# Altium footprint library RFID_CC1101_433MHz.PcbLib: 207 footprints (part 2 of 13)
Each footprint in its own frame and in the unit in brackets; x right, y up, seen from the top. Pads: shape width x height; smd on the part's side, far side on the other; paste and mask are expansions set on the pad; w line width, h text height; cw(c..) or ccw(c..) is an arc to the next point about the centre after c.
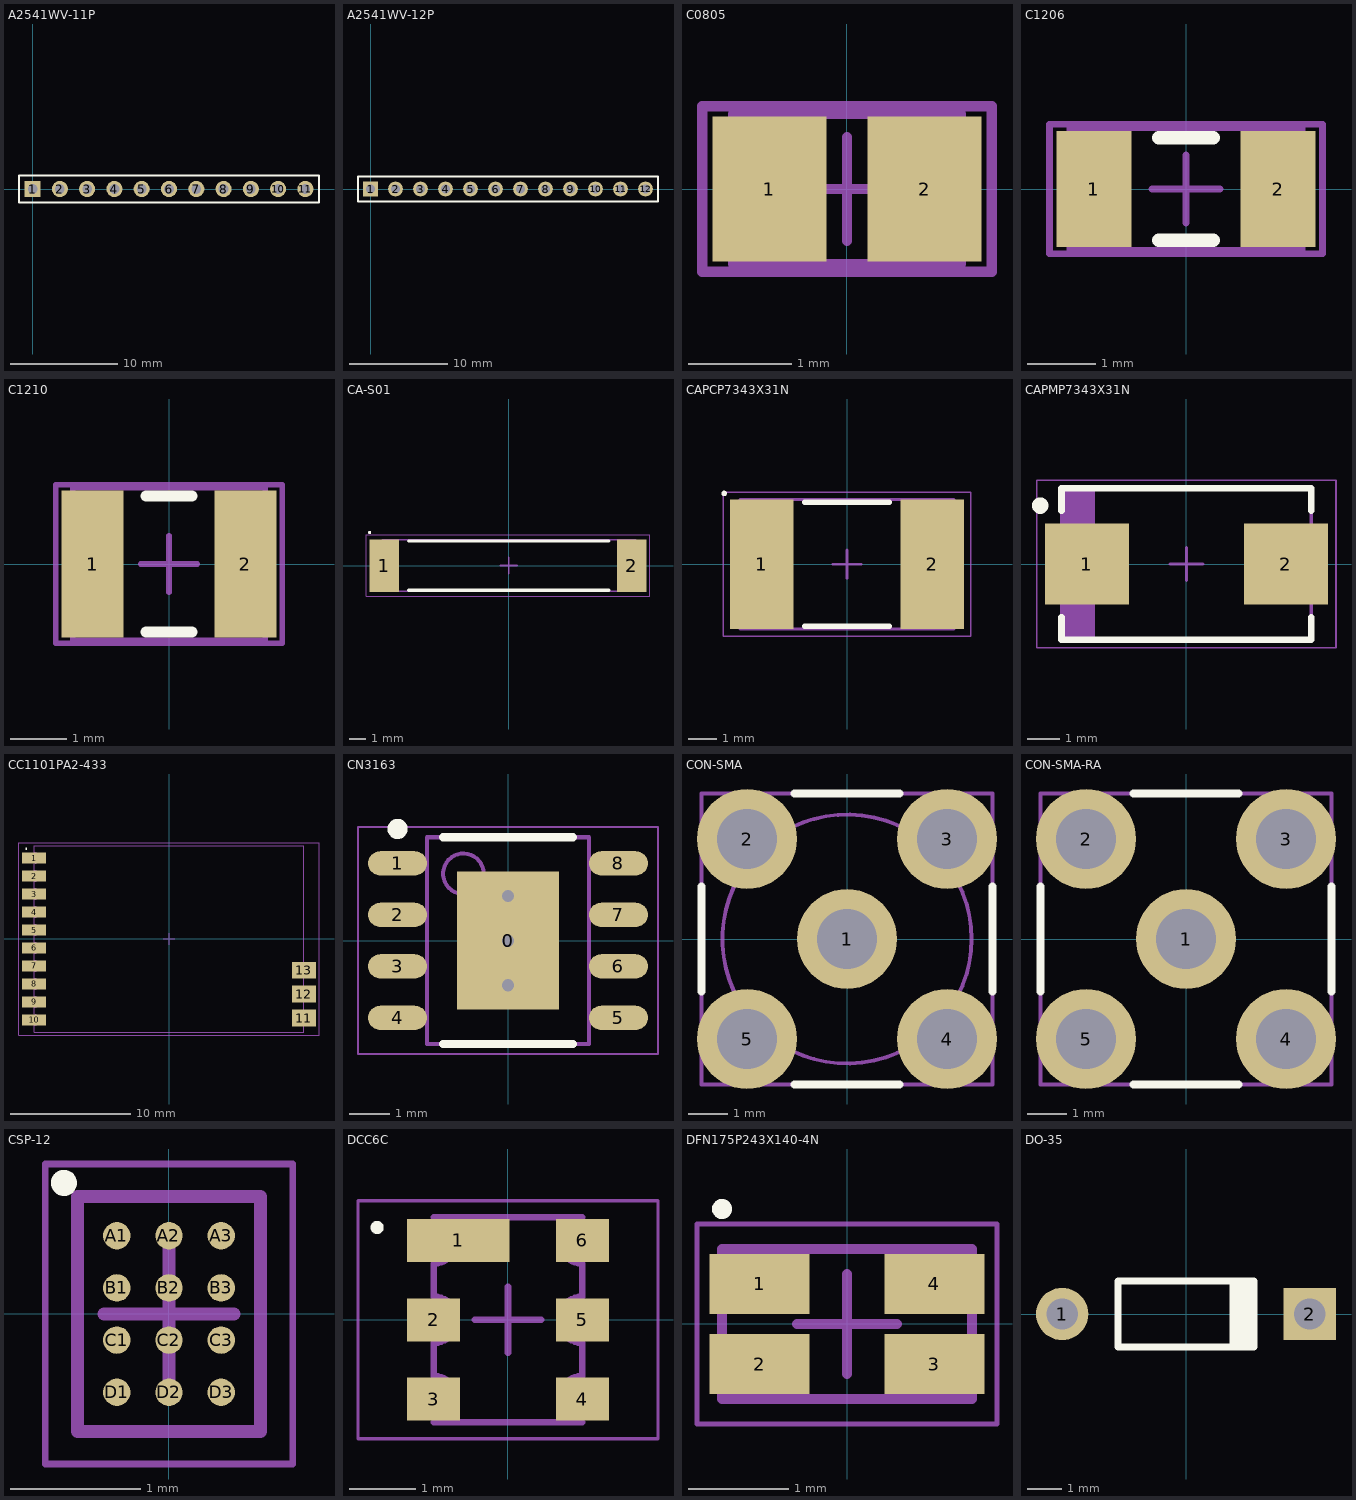
[diagram p1: the footprints below, top view; thin cyan lines are the x and y axes]

## A2541WV-11P [mm] "Connector; Header; 11 Position"
pads (11):
  rect 1.5x1.5 hole 0.9: 1(0,0)
  round 1.5 hole 0.9: 2(2.54,0) 3(5.08,0) 4(7.62,0) 5(10.16,0) 6(12.7,0) 7(15.24,0) 8(17.78,0) 9(20.32,0) 10(22.86,0) 11(25.4,0)
Top Overlay:
  lines w0.2: -1.27,-1.27 26.67,-1.27 26.67,1.27 0.635,1.27 -1.27,1.27 -1.27,-1.27

## A2541WV-12P [mm] "Connector; Header; 12 Position"
pads (12):
  rect 1.5x1.5 hole 0.9: 1(0,0)
  round 1.5 hole 0.9: 2(2.54,0) 3(5.08,0) 4(7.62,0) 5(10.16,0) 6(12.7,0) 7(15.24,0) 8(17.78,0) 9(20.32,0) 10(22.86,0) 11(25.4,0) 12(27.94,0)
Top Overlay:
  lines w0.2: -1.27,-1.27 29.21,-1.27 29.21,1.27 0.635,1.27 -1.27,1.27 -1.27,-1.27

## C0805 [mm] "Chip Capacitor, Body 2.0x1.3mm, IPC High Density"
height 1.4
pads (2):
  rect 1.1x1.4 smd: 1(-0.75,0) 2(0.75,0)
Mechanical 13:
  lines w0.1: -1.1,-0.725 -1.1,0.725 1.1,0.725 1.1,-0.725 -1.1,-0.725
Mechanical 15:
  lines w0.1: -0.5,0 0.5,0 ; 0,-0.5 0,0.5 ; -1.4,-0.8 -1.4,0.8 1.4,0.8 1.4,-0.8 -1.4,-0.8
3D body: height 1.4, standoff 0, extent -1.1,-0.725 1.1,0.725

## C1206 [mm] "Chip Capacitor, Body 3.2x1.6mm, IPC High Density"
height 1.3
pads (2):
  rect 1.1x1.7 smd: 1(-1.35,0) 2(1.35,0)
Top Overlay:
  lines w0.2: -0.4,-0.75 0.4,-0.75 ; -0.4,0.75 0.4,0.75
Mechanical 13:
  lines w0.1: -1.7,-0.9 -1.7,0.9 1.7,0.9 1.7,-0.9 -1.7,-0.9
Mechanical 15:
  lines w0.1: -0.5,0 0.5,0 ; 0,-0.5 0,0.5 ; -2,-0.95 -2,0.95 2,0.95 2,-0.95 -2,-0.95
3D body: height 1.3, standoff 0, extent -1.7,-0.9 1.7,0.9

## C1210 [mm] "Chip Capacitor, Body 3.2x2.5mm, IPC High Density"
height 1.3
pads (2):
  rect 1.1x2.6 smd: 1(-1.35,0) 2(1.35,0)
Top Overlay:
  lines w0.2: -0.4,-1.2 0.4,-1.2 ; -0.4,1.2 0.4,1.2
Mechanical 13:
  lines w0.1: -1.7,-1.35 1.7,-1.35 1.7,1.35 -1.7,1.35 -1.7,-1.35
Mechanical 15:
  lines w0.1: -0.5,0 0.5,0 ; 0,-0.5 0,0.5 ; -2,-1.4 2,-1.4 2,1.4 -2,1.4 -2,-1.4
3D body: height 1.3, standoff 0, extent -1.7,-1.35 1.7,1.35

## CA-S01 [mm] "CorssAir Antenna, 2-Leads, Body 15.00x3.00mm, IPC Medium Density"
height 1
pads (2):
  rect 1.8x3.15 smd: 1(-7.475,0) 2(7.375,0)
Top Overlay:
  circle w0.1: c-8.357,1.981 r0.05
  lines w0.2: -6,-1.475 6,-1.475 ; -6,1.475 6,1.475
Assembly Top:
  lines w0.1: -7.6,-1.55 7.6,-1.55 7.6,1.55 -7.6,1.55 -7.6,-1.55
Courtyard Top:
  lines w0.05: -8.56,-1.85 8.458,-1.85 8.458,1.85 -8.56,1.85 -8.56,-1.85
  lines w0.1: -0.5,0 0.5,0 ; 0,-0.5 0,0.5
3D body: height 0.25, standoff 0, extent -7.6,-1.55 7.6,1.55

## CAPCP7343X31N [mm] "Chip Capacitor, 2-Leads, Body 7.30x4.30mm, IPC Medium Density"
height 3.1
pads (2):
  rect 2.25x4.6 smd: 1(-3.025,0) 2(3.025,0)
Top Overlay:
  circle w0.1: c-4.362,2.512 r0.05
  lines w0.2: -1.5,-2.2 1.5,-2.2 ; -1.5,2.2 1.5,2.2
Mechanical 13:
  lines w0.1: -3.8,-2.3 3.8,-2.3 3.8,2.3 -3.8,2.3 -3.8,-2.3
Mechanical 15:
  lines w0.05: -4.4,-2.55 4.4,-2.55 4.4,2.55 -4.4,2.55 -4.4,-2.55
  lines w0.1: -0.5,0 0.5,0 ; 0,-0.5 0,0.5
3D body "CAPCP7343X31N.step": height 3.1, standoff 0, extent -3.8,-2.3 3.8,2.3

## CAPMP7343X31N [mm] "Molded Capacitor, 2-Leads, Body 7.30x4.30mm, IPC Medium Density"
height 3.1
pads (2):
  rect 2.55x2.45 smd: 1(-3.025,0) 2(3.025,0)
Top Overlay:
  circle w0.25: c-4.45,1.775 r0.125
  lines w0.2: -3.8,-1.625 -3.8,-2.3 3.8,-2.3 3.8,-1.625 ; -3.8,1.625 -3.8,2.3 3.8,2.3 3.8,1.625
Mechanical 13:
  rectangle: -3.8,-2.3 -2.778,2.3
  lines w0.1: -3.8,-2.3 3.8,-2.3 3.8,2.3 -3.8,2.3 -3.8,-2.3
Mechanical 15:
  lines w0.05: -4.55,-2.55 4.55,-2.55 4.55,2.55 -4.55,2.55 -4.55,-2.55
  lines w0.1: -0.5,0 0.5,0 ; 0,-0.5 0,0.5
3D body "CAPMP7343X31N.step": height 3.1, standoff 0, extent -4.02,-2.3 4.02,2.3

## CC1101PA2-433 [mm] "Concave, 13-Leads, Pitch 1.50mm,  Body 15.60x23.50mm"
height 2.7
pads (13):
  rect 2x0.9 smd: 1(-11.25,6.75) 2(-11.25,5.25) 3(-11.25,3.75) 4(-11.25,2.25) 5(-11.25,0.75) 6(-11.25,-0.75) 7(-11.25,-2.25) 8(-11.25,-3.75) 9(-11.25,-5.25) 10(-11.25,-6.75)
  rect 2x1.4 smd: 11(11.25,-6.6) 12(11.25,-4.6) 13(11.25,-2.6)
Top Overlay:
  circle w0.1: c-11.912,7.538 r0.05
Assembly Top:
  lines w0.1: -11.25,-7.8 11.25,-7.8 11.25,-7.2 cw(c11.25,-6.6) 11.25,-6 11.25,-5.2 cw(c11.25,-4.6) 11.25,-4 11.25,-3.2 cw(c11.25,-2.6) 11.25,-2 11.25,7.8 -11.25,7.8 -11.25,7.2 cw(c-11.25,6.75) -11.25,6.3 -11.25,5.7 cw(c-11.25,5.25) -11.25,4.8 -11.25,4.2 cw(c-11.25,3.75) -11.25,3.3 -11.25,2.7 cw(c-11.25,2.25) -11.25,1.8 -11.25,1.2 cw(c-11.25,0.75) -11.25,0.3 -11.25,-0.3 cw(c-11.25,-0.75) -11.25,-1.2 -11.25,-1.8 cw(c-11.25,-2.25) -11.25,-2.7 -11.25,-3.3 cw(c-11.25,-3.75) -11.25,-4.2 -11.25,-4.8 cw(c-11.25,-5.25) -11.25,-5.7 -11.25,-6.3 cw(c-11.25,-6.75) -11.25,-7.2 -11.25,-7.8
Courtyard Top:
  lines w0.05: -12.52,-8.05 12.52,-8.05 12.52,8.05 -12.52,8.05 -12.52,-8.05
  lines w0.1: -0.5,0 0.5,0 ; 0,-0.5 0,0.5
3D body "CC1101PA2-433.step": height 2.7, standoff 0, extent -11.8,-7.8 11.8,7.8

## CN3163 [mm] "SOP, 8-Leads, Body 4.90x3.90mm, Pitch 1.27mm, Thermal Pad 3.41x2.52mm, IPC Medium Density"
height 1.75
pads (9):
  rect 2.52x3.41 smd: 0(0,0)
  oval 1.45x0.6 smd: 1(-2.725,1.905) 2(-2.725,0.635) 3(-2.725,-0.635) 4(-2.725,-1.905) 5(2.725,-1.905) 6(2.725,-0.635) 7(2.725,0.635) 8(2.725,1.905)
via 0,0 diameter 0.508 hole 0.305
via 0,1.1 diameter 0.508 hole 0.305
via 0,-1.1 diameter 0.508 hole 0.305
Top Overlay:
  circle w0.25: c-2.725,2.755 r0.125
  lines w0.2: -1.6,-2.55 1.6,-2.55 ; -1.6,2.55 1.6,2.55
Mechanical 13:
  circle w0.1: c-1.1,1.65 r0.5
  lines w0.1: -2,-2.55 2,-2.55 2,2.55 -2,2.55 -2,-2.55
Mechanical 15:
  lines w0.05: -3.7,-2.8 3.7,-2.8 3.7,2.8 -3.7,2.8 -3.7,-2.8
  lines w0.1: -0.5,0 0.5,0 ; 0,-0.5 0,0.5
3D body "CN3163.step": height 1.75, standoff 0, extent -3,-2.55 3,2.55

## CON-SMA [mil] "Connector, SMA Female, 5-Lead, Thru-Hole, Straight, Body 7x7mm"
height 401.57
pads (5):
  round 100 hole 60: 1(0,0) 2(-100,100) 3(100,100) 4(100,-100) 5(-100,-100)
Top Overlay:
  lines w7.87: -145.67,-52.68 -145.67,52.68 ; -52.68,-145.67 52.68,-145.67 ; -52.68,145.67 52.68,145.67 ; 145.67,-52.68 145.67,52.68
Mechanical 13:
  circle w3.94: c-0.01,-0.01 r124.55
  lines w3.94: -145.67,-145.67 145.67,-145.67 145.67,145.67 -145.67,145.67 -145.67,-145.67
Mechanical 15:
  lines w3.94: -19.69,0 19.68,0 ; 0,-19.68 0,19.69

## CON-SMA-RA [mil] "Connector, SMA Female, 5-Lead, Thru-Hole, Right-Angle, Body 7x7mm"
height 409.45
pads (5):
  round 100 hole 60: 1(0,0) 2(-100,100) 3(100,100) 4(100,-100) 5(-100,-100)
Top Overlay:
  lines w7.87: -145.67,-52.68 -145.67,52.68 ; -52.68,-145.67 52.68,-145.67 ; -52.68,145.67 52.68,145.67 ; 145.67,-52.68 145.67,52.68
Mechanical 13:
  lines w3.94: -145.67,-145.67 145.67,-145.67 145.67,145.67 -145.67,145.67 -145.67,-145.67
Mechanical 15:
  lines w3.94: -19.69,0 19.68,0 ; 0,-19.68 0,19.69

## CSP-12 [mm] "CSP-12, 12-Leads, Body 1.40x1.80mmx0.63mm, Pitch 0.40mm"
height 0.63
pads (12):
  round 0.21 smd: A1(-0.4,0.6) A2(0,0.6) A3(0.4,0.6) B1(-0.4,0.2) B2(0,0.2) B3(0.4,0.2) C1(-0.4,-0.2) C2(0,-0.2) C3(0.4,-0.2) D1(-0.4,-0.6) D2(0,-0.6) D3(0.4,-0.6)
Top Overlay:
  circle w0.1: c-0.805,1.005 r0.05
Assembly Top:
  lines w0.1: -0.7,-0.9 0.7,-0.9 0.7,0.9 -0.7,0.9 -0.7,-0.9
Courtyard Top:
  lines w0.05: -0.95,-1.15 0.95,-1.15 0.95,1.15 -0.95,1.15 -0.95,-1.15
  lines w0.1: -0.5,0 0.5,0 ; 0,-0.5 0,0.5
3D body "CSP-12.step": height 0.63, standoff 0, extent -0.7,-0.9 0.7,0.9

## DCC6C [mm] "DCC6C,  6-Leads, Pitch 1.20mm,  Body 3.00x3.00mm,  IPC Medium Density, For B39871B3725U410"
height 1.23
pads (6):
  rect 1.55x0.65 smd: 1(-0.75,1.2)
  rect 0.8x0.65 smd: 2(-1.125,0) 3(-1.125,-1.2) 4(1.125,-1.2) 5(1.125,0) 6(1.125,1.2)
Top Overlay:
  circle w0.1: c-1.981,1.397 r0.05
Assembly Top:
  lines w0.1: -1.125,-1.55 ccw(c-1.125,-1.2) -1.125,-0.85 -1.125,-0.35 ccw(c-1.125,0) -1.125,0.35 -1.125,0.85 ccw(c-1.125,1.2) -1.125,1.55 1.125,1.55 ccw(c1.125,1.2) 1.125,0.85 1.125,0.35 ccw(c1.125,0) 1.125,-0.35 1.125,-0.85 ccw(c1.125,-1.2) 1.125,-1.55 -1.125,-1.55
Courtyard Top:
  lines w0.05: -2.27,-1.8 -2.27,1.8 2.27,1.8 2.27,-1.8 -2.27,-1.8
  lines w0.1: -0.5,0 0.5,0 ; 0,-0.5 0,0.5
3D body: height 1.23, standoff 0, extent -1.55,-1.55 1.55,1.55

## DFN175P243X140-4N [mm] "DFN, 4-Leads, Body 1.43x2.43mm, Pitch 1.75mm, IPC Medium Density"
height 1.4
pads (4):
  rect 1x0.6 smd: 1(-0.875,0.4) 2(-0.875,-0.4) 3(0.875,-0.4) 4(0.875,0.4)
Top Overlay:
  circle w0.1: c-1.25,1.15 r0.05
Mechanical 13:
  lines w0.1: -1.25,-0.75 -1.25,0.75 1.25,0.75 1.25,-0.75 -1.25,-0.75
Mechanical 15:
  lines w0.05: -1.5,-1 -1.5,1 1.5,1 1.5,-1 -1.5,-1
  lines w0.1: -0.5,0 0.5,0 ; 0,-0.5 0,0.5
3D body "DFN175P243X140-4N.step": height 1.4, standoff 0, extent -1.452,-0.75 1.473,0.75

## DO-35 [mm] "Diode, Axial; Body 3.8 x 1.9 mm (LxDia. max), Lead Dia. 0.53 mm (max)"
height 1.9
pads (2):
  round 1.5 hole 0.9: 1(-3.55,0)
  rect 1.5x1.5 hole 0.9: 2(3.55,0)
Top Overlay:
  rectangle: 1.25,-0.95 2.05,0.95
  lines w0.2: 1.95,-0.95 -1.95,-0.95 -1.95,0.95 1.95,0.95